# Altium footprint library AZ733-2CE-12DE.PcbLib: 1 footprints
Each footprint in its own frame and in the unit in brackets; x right, y up, seen from the top. Pads: shape width x height; smd on the part's side, far side on the other; paste and mask are expansions set on the pad; w line width, h text height; cw(c..) or ccw(c..) is an arc to the next point about the centre after c.
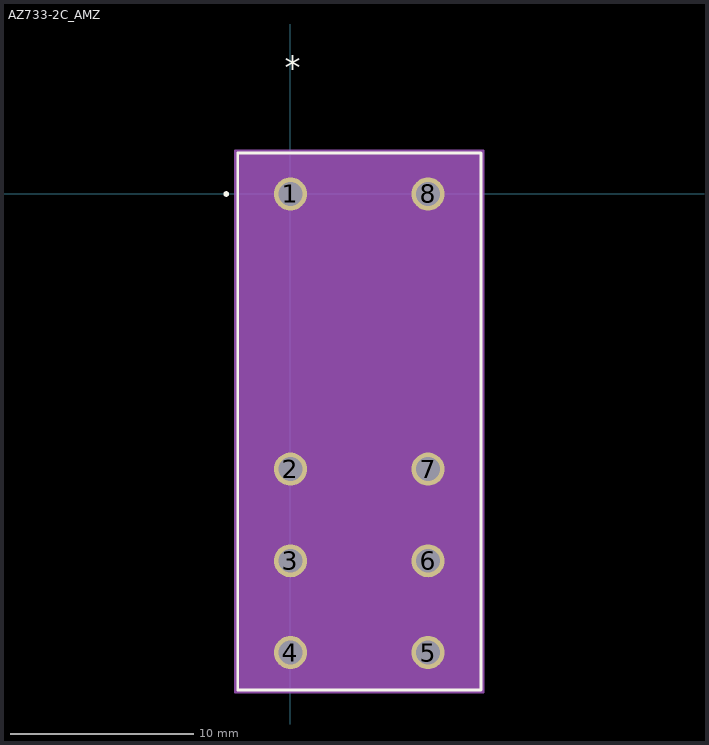
[diagram p0: the footprint, top view; thin cyan lines are the x and y axes]

## AZ733-2C_AMZ [mil]
pads (8):
  round 71 / inner round 60 / far side round 71 hole 51 paste-35.5 mask+0: 1(0,0) 2(0,-590.55) 3(0,-787.4) 4(0,-984.25) 5(295.28,-984.25) 6(295.28,-787.4) 7(295.28,-590.55) 8(295.28,0)
Top Overlay:
  circle w6: c-137.93,0 r3
  lines w6: -113.36,-1064.32 -113.36,87.68 408.64,87.68 408.64,-1064.32 -113.36,-1064.32
  text "*" at -12.5,246.59 h50
Mechanical 13:
  circle w0: c35.5,0 r3
  lines w0: 135.64,82.68 ccw(c147.64,82.68) 159.64,82.68
  lines w1: -108.36,-1059.32 -108.36,82.68 403.64,82.68 403.64,-1059.32 -108.36,-1059.32
  text "*" at -12.5,81.23 h50
Mechanical 15:
  region: 403.64,-1059.32 -108.36,-1059.32 -108.36,82.68 403.64,82.68
  region: 413.64,-1069.32 -118.36,-1069.32 -118.36,92.68 413.64,92.68
  lines w6: -118.36,-1069.32 413.64,-1069.32 413.64,92.68 -118.36,92.68 -118.36,-1069.32
3D body "AZ733-2C_AMZ.step": height 1035.12, standoff -300, extent -108.35,-1059.33 403.62,82.68